# Altium schematic symbol library Switche.SchLib: 1 symbol
Pins are listed as number, name and electrical type; pins without a type are passive.

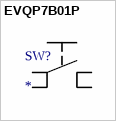
[diagram p0: symbol EVQP7B01P]

## EVQP7B01P
designator SW?
Switch Tactile N.O. SPST Rectangular Button J-Bend 0.05A 12VDC 2.2N SMD T/R
footprint EVQP7B01P (Switch Tactile N.O. SPST Rectangular Button J-Bend 0.05A 12VDC 2.2N SMD T/R)
pins: 1 P, 1' P1, 2 S, 2' S1